# Altium schematic symbol library TMP117MAIYBGR.SchLib: 1 symbol
Pins are listed as number, name and electrical type; pins without a type are passive.

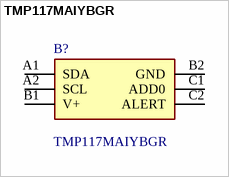
[diagram p0: symbol TMP117MAIYBGR]

## TMP117MAIYBGR
designator B?
+/-0.1C accurate digital temperature sensor with integrated NV memory; Manufacturer_Name: Texas Instruments; Geometry.Height: 0.5mm; Mouser Part Number: 595-TMP117MAIYBGR; Mouser Price/Stock: https://www.mouser.co.uk/ProductDetail/Texas-Instruments/TMP117MAIYBGR?qs=vLWxofP3U2wReoA4ATB%2Fjg%3D%3D; Manufacturer_Part_Number: TMP117MAIYBGR; Datasheet Link: http://www.ti.com/lit/gpn/TMP117
footprint BGA6C40P2X3_95X149X50
pins: A1 SDA, A2 SCL, B1 V+, B2 GND, C1 ADD0, C2 ALERT